# EAGLE library part PT2399 (library _mtvl_ic)
PT2399 Echo Processor IC http://www.princeton.com.tw/Portals/0/Product/PT2399_1.pdf
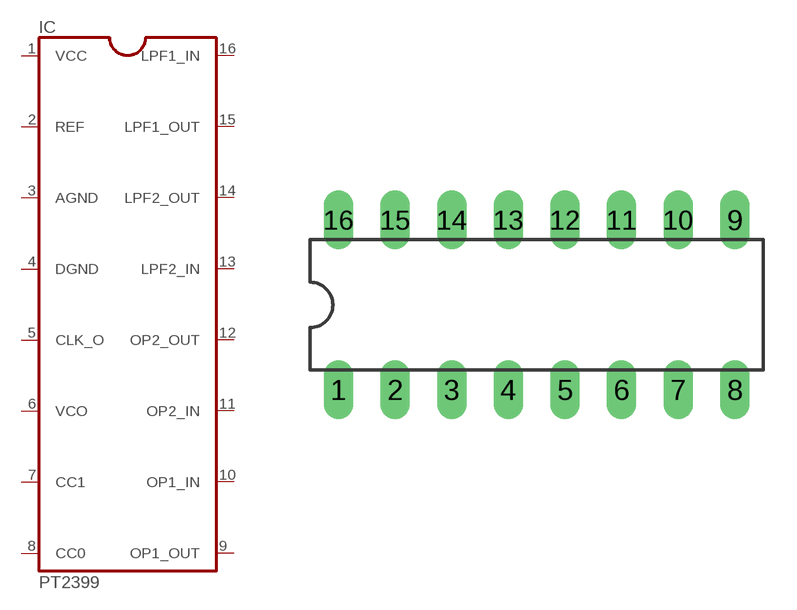
[diagram p31: symbol with the pads of DIL16; footprint DIL16]

Designator prefix IC

## PT2399  [DIL16]
1  VCC  in
2  REF  in
3  AGND  in
4  DGND  in
5  CLK_O  in
6  VCO  in
7  CC1  in
8  CC0  in
9  OP1_OUT  in
10  OP1_IN  in
11  OP2_IN  in
12  OP2_OUT  in
13  LPF2_IN  in
14  LPF2_OUT  in
15  LPF1_OUT  in
16  LPF1_IN  in

## Footprint DIL16 (pad centres in mm)
Dual In Line Package
drill 0.813 long: 1 -8.89,-3.81; 2 -6.35,-3.81; 3 -3.81,-3.81; 4 -1.27,-3.81; 5 1.27,-3.81; 6 3.81,-3.81; 7 6.35,-3.81; 8 8.89,-3.81; 9 8.89,3.81; 10 6.35,3.81; 11 3.81,3.81; 12 1.27,3.81; 13 -1.27,3.81; 14 -3.81,3.81; 15 -6.35,3.81; 16 -8.89,3.81